# Altium schematic symbol library UltrasonicSensor.SchLib: 1 symbol
Pins are listed as number, name and electrical type; pins without a type are passive.

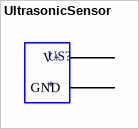
[diagram p0: symbol UltrasonicSensor]

## UltrasonicSensor
designator US?
A simple ultrasonic sensor HC-SR04
footprint RESMELF110150N (MELF Resistor, 2-Leads, Body 11,00x15,00mm, IPC Medium Density)
pins: 0 V+ (power), 1 GND (power)